# Altium footprint library H2184-05.PcbLib: 1 footprints
Each footprint in its own frame and in the unit in brackets; x right, y up, seen from the top. Pads: shape width x height; smd on the part's side, far side on the other; paste and mask are expansions set on the pad; w line width, h text height; cw(c..) or ccw(c..) is an arc to the next point about the centre after c.
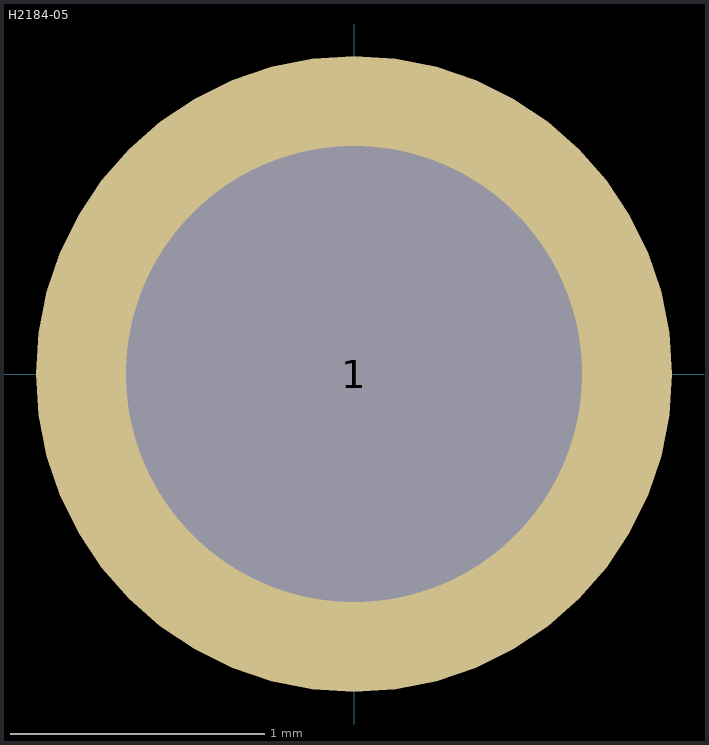
[diagram p0: the footprint, top view; thin cyan lines are the x and y axes]

## H2184-05 [mm] "CONN PIN 1.75MM DIA GOLD 15.3MM"
height 1.6
pads (1):
  round 2.5 hole 1.79: 1(0,0)
3D body "H2184-05.stp": height 15.64, standoff -2, extent -1.125,-1.117 1.125,1.117